# EAGLE library part SFH6916 (library misc)
Optocoupler, Phototransistor Output, Quad Channel, SOP-16, Half Pitch Mini-Flat Package
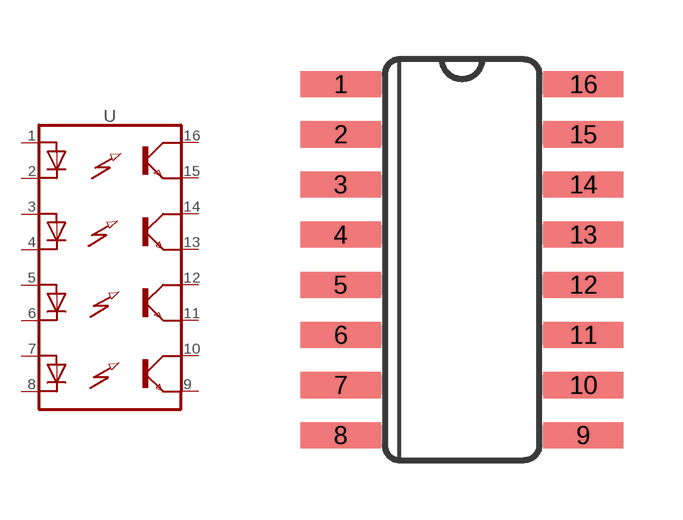
[diagram p70: symbol with the pads of SOIC16; footprint SOIC16]

Designator prefix U

## SFH6916 (MANF: VISHAY INTERTECHNOLOGY INC; MANF#: SFH6916)  [SOIC16]
1  ~  pas
2  ~  pas
3  ~  pas
4  ~  pas
5  ~  pas
6  ~  pas
7  ~  pas
8  ~  pas
9  ~  pas
10  ~  pas
11  ~  pas
12  ~  pas
13  ~  pas
14  ~  pas
15  ~  pas
16  ~  pas

## Footprint SOIC16 (pad centres in mm)
3D model <http://grabcad.com/library/106x-soic-packages-small-outline-integrated-circuit-1/details?folder_id=13776991>
smd 2.032 x 0.66: 1 -3.073,4.445; 2 -3.073,3.175; 3 -3.073,1.905; 4 -3.073,0.635; 5 -3.073,-0.635; 6 -3.073,-1.905; 7 -3.073,-3.175; 8 -3.073,-4.445; 9 3.073,-4.445; 10 3.073,-3.175; 11 3.073,-1.905; 12 3.073,-0.635; 13 3.073,0.635; 14 3.073,1.905; 15 3.073,3.175; 16 3.073,4.445